# Altium footprint library PcbLibPOW.PcbLib: 4 footprints
Each footprint in its own frame and in the unit in brackets; x right, y up, seen from the top. Pads: shape width x height; smd on the part's side, far side on the other; paste and mask are expansions set on the pad; w line width, h text height; cw(c..) or ccw(c..) is an arc to the next point about the centre after c.
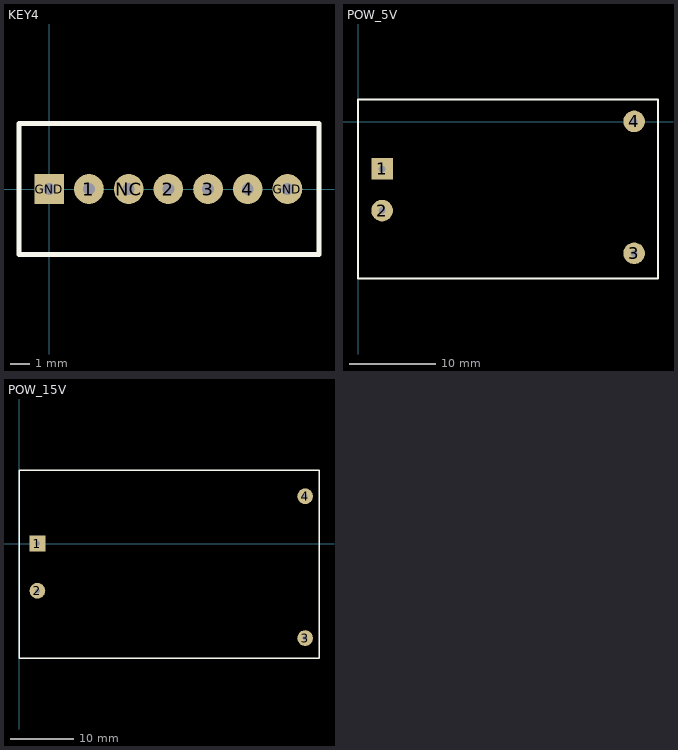
[diagram p0: the footprints below, top view; thin cyan lines are the x and y axes]

## KEY4 [mm]
pads (7):
  round 1.5 hole 0.6: 1(2,0) 2(6,0) 3(8,0) 4(10,0) GND(12,0) NC(4,0)
  rect 1.5x1.5 hole 0.6: GND(0,0)
Top Overlay:
  lines w0.254: -1.524,-3.302 -1.524,3.302 13.589,3.302 13.589,-3.302 -1.524,-3.302

## PCBComponent_1 [mm]

## POW_5V [mm]
pads (4):
  rect 2.5x2.5 hole 0.8: 1(2.794,-5.461)
  round 2.5 hole 0.8: 2(2.794,-10.287) 3(32.004,-15.24) 4(32.004,0.046)
Top Overlay:
  lines w0.2: 0,-18.161 0,2.589 34.77,2.589 34.77,-18.161 0,-18.161

## POW_15V [mm]
pads (4):
  rect 2.5x2.5 hole 0.8: 1(2.921,0)
  round 2.5 hole 0.8: 2(2.921,-7.5) 3(45.421,-15) 4(45.421,7.5)
Top Overlay:
  lines w0.2: 0,-18.161 0,11.684 47.625,11.684 47.625,-18.161 0,-18.161